# EAGLE library part ISD1820 (library L71_devices)
ISD1820 audio record and playback chip
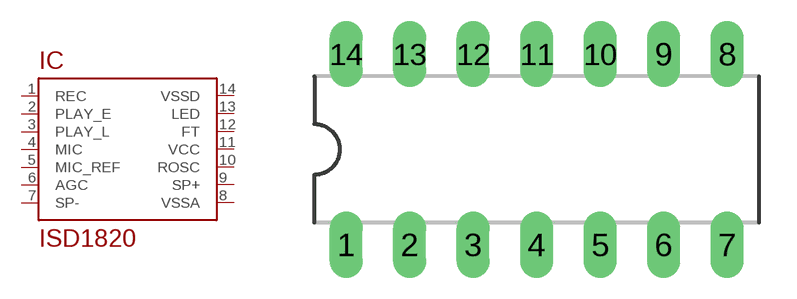
[diagram p2: symbol with the pads of DIL14; footprint DIL14]

Designator prefix IC

## ISD1820  [DIL14]
1  REC
2  PLAY_E
3  PLAY_L
4  MIC
5  MIC_REF
6  AGC
7  SP-
8  VSSA  pwr
9  SP+
10  ROSC
11  VCC  pwr
12  FT
13  LED
14  VSSD  pwr

## Footprint DIL14 (pad centres in mm)
Dual In Line Package
drill 0.813 long: 1 -7.62,-3.81; 2 -5.08,-3.81; 3 -2.54,-3.81; 4 0,-3.81; 5 2.54,-3.81; 6 5.08,-3.81; 7 7.62,-3.81; 8 7.62,3.81; 9 5.08,3.81; 10 2.54,3.81; 11 0,3.81; 12 -2.54,3.81; 13 -5.08,3.81; 14 -7.62,3.81